# Altium schematic symbol library comm sub.SchLib: 89 symbols (part 3 of 4)
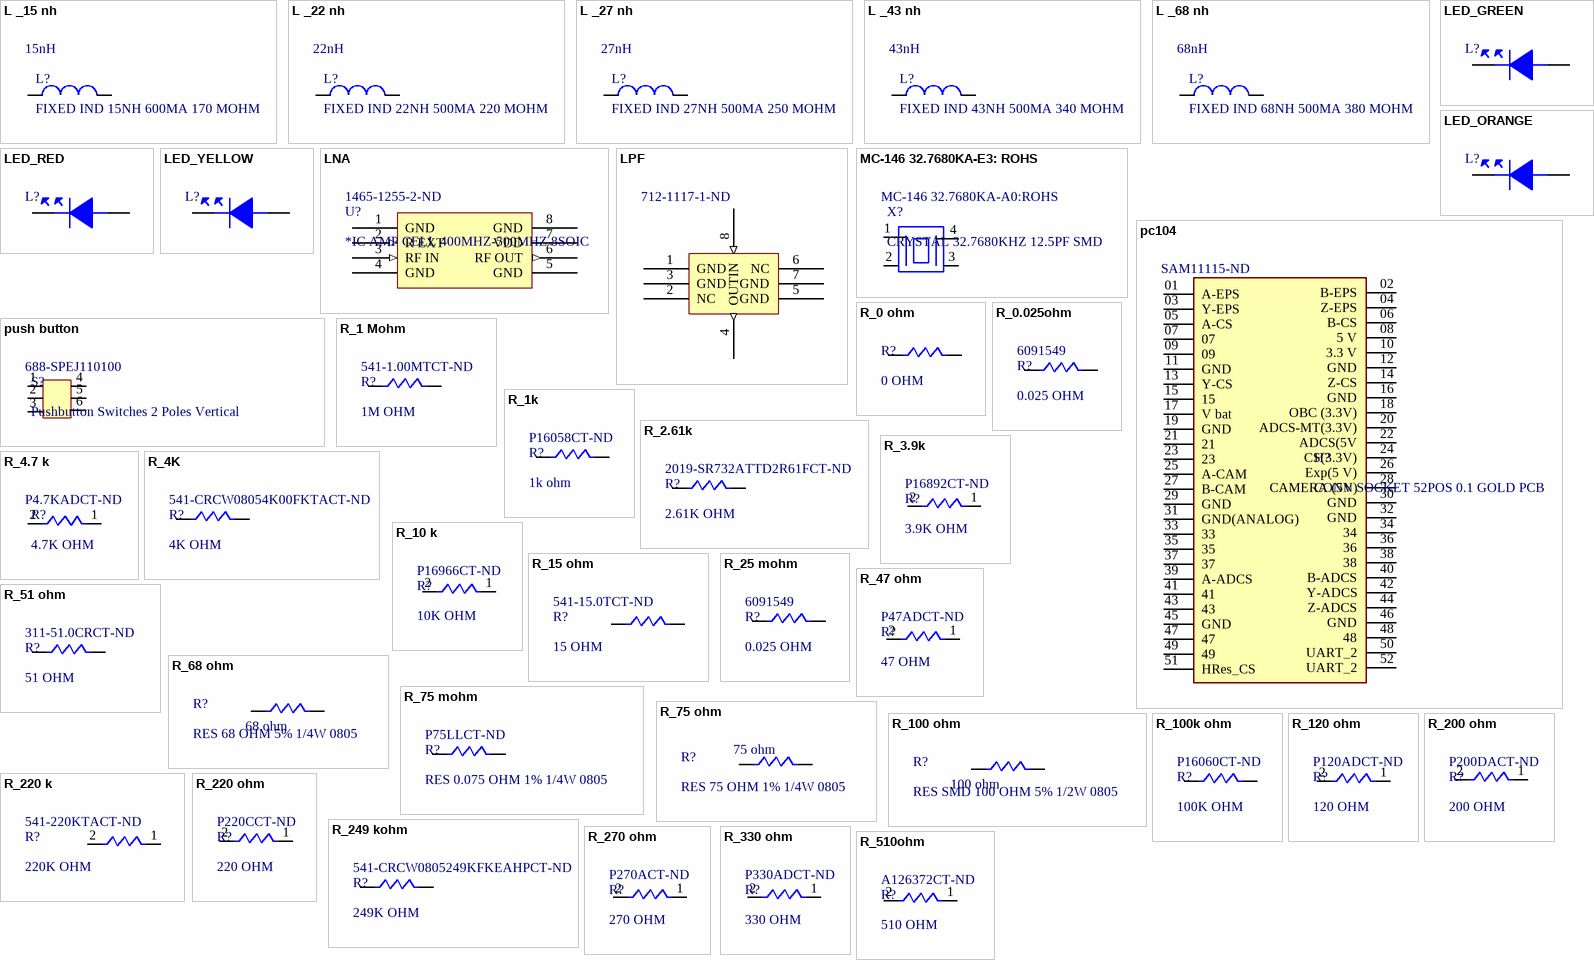
[diagram p4: symbols L _15 nh to R_510ohm]

## R_1k
designator R?, comment 1k ohm  Supplier Part Number 1: P16058CT-ND
1 kOhms ±1% 0.5W, 1/2W Chip Resistor 0805 (2012 Metric) Automotive AEC-Q200, Pulse Withstanding Thick Film; Manufacturer: Vishay; Manufacturer Part Number: CRCW08050000Z0EAC; Power Rating: 125mW; Resistance: 20R; Temperature Coefficient: 100ppm/°C; Voltage Rating (DC): 150V; RoHS: Yes; Mount: Surface Mount; Case/Package: Molded; Contact Plating: Tin; Min Operating Temperature: -55°C; Max Operating Temperature: 155°C; Resistor Type: Thick Film; Termination: Wraparound; Length: 2mm; Lead Free: Lead Free; ComponentLink1URL: http://www.vishay.com/docs/28773/crcwce3.pdf?src-supplier=Digi-Key; ComponentLink1Description: http://www.vishay.com/docs/28773/crcwce3.pdf?src-supplier=Digi-Key; Supplier 1: Digi-Key; Stock 1: 50926; Pricing 1: 1 = 0.16000, 10 = 0.13400, 100 = 0.05250, 1000 = 0.02196, 2500 = 0.02013 (USD); Number of Pins: 2; Case Code (Imperial): 0805; Case Code (Metric): 2012; Tolerance: 1%; Packaging: Tape and Reel; Voltage Rating: 150V; Package Quantity: 5000; Width: 1.2mm; Height: 0.6mm; Depth: 1.25mm; Radiation Hardening: No; Military Standard: Not; REACH SVHC: No SVHC; ComponentLink2URL: https://datasheet.ciiva.com/11812/0900766b812cb812-11812402.pdf?src-supplier=RSComponents; ComponentLink2Description: https://datasheet.ciiva.com/11812/0900766b812cb812-11812402.pdf?src-supplier=RSComponents; ComponentLink3URL: https://datasheet.ciiva.com/7942/1801181-7942439.pdf?src-supplier=Element14; ComponentLink3Description: https://datasheet.ciiva.com/7942/1801181-7942439.pdf?src-supplier=Element14; ComponentLink4URL: https://datasheet.ciiva.com/17215/aoa0000ce4-17215335.pdf?src-supplier=Avnet+Europe; ComponentLink4Description: https://datasheet.ciiva.com/17215/aoa0000ce4-17215335.pdf?src-supplier=Avnet+Europe; ComponentLink5URL: https://datasheet.ciiva.com/24024/aoa0000ce4-64075-24024393.pdf?src-supplier=Mouser; ComponentLink5Description: https://datasheet.ciiva.com/24024/aoa0000ce4-64075-24024393.pdf?src-supplier=Mouser; ComponentLink6URL: https://datasheet.ciiva.com/48426/erjp-series-eng-tds-48426778.pdf?src-supplier=Distrelec; ComponentLink6Description: https://datasheet.ciiva.com/48426/erjp-series-eng-tds-48426778.pdf?src-supplier=Distrelec; ComponentLink7URL: https://datasheet.ciiva.com/22783/1801181-22783836.pdf?src-supplier=Farnell; ComponentLink7Description: https://datasheet.ciiva.com/22783/1801181-22783836.pdf?src-supplier=Farnell; ComponentLink8URL: https://datasheet.ciiva.com/30056/aoa0000ce4-30056581.pdf?src-supplier=Onlinecomponents.com; ComponentLink8Description: https://datasheet.ciiva.com/30056/aoa0000ce4-30056581.pdf?src-supplier=Onlinecomponents.com; ComponentLink9URL: https://datasheet.ciiva.com/7942/1801181-7942440.pdf?src-supplier=Element14; ComponentLink9Description: https://datasheet.ciiva.com/7942/1801181-7942440.pdf?src-supplier=Element14; ComponentLink10URL: https://datasheet.ciiva.com/25795/1801181-25795160.pdf?src-supplier=Farnell; ComponentLink10Description: https://datasheet.ciiva.com/25795/1801181-25795160.pdf?src-supplier=Farnell
footprint 0805 R
pins: 1, 2

## R_2.61k
designator R?, comment 2.61K OHM  Supplier Part Number 1: 2019-SR732ATTD2R61FCT-ND
2.61 Ohms ±1% 0.333W, 1/3W Chip Resistor 0805 (2012 Metric) Automotive AEC-Q200, Current Sense Thick Film; Manufacturer: Vishay; Manufacturer Part Number: CRCW08050000Z0EAC; Power Rating: 125mW; Resistance: 20R; Temperature Coefficient: 100ppm/°C; Voltage Rating: 1.58V; RoHS: Yes; Mount: Surface Mount; Case/Package: Molded; Contact Plating: Tin; Min Operating Temperature: -55°C; Max Operating Temperature: 155°C; Resistor Type: Thick Film; Termination: Wraparound; Length: 2mm; Lead Free: Lead Free; ComponentLink1URL: http://www.vishay.com/docs/28773/crcwce3.pdf?src-supplier=Digi-Key; ComponentLink1Description: http://www.vishay.com/docs/28773/crcwce3.pdf?src-supplier=Digi-Key; Supplier 1: Digi-Key; Stock 1: 2830; Pricing 1: 1 = 0.50000, 10 = 0.38000, 25 = 0.28880, 50 = 0.21460, 100 = 0.15950, 250 = 0.13476, 500 = 0.11550, 1000 = 0.08800 (USD); Case Code (Imperial): 0805; Case Code (Metric): 2012; Tolerance: 1%; Packaging: Tape and Reel; Package Quantity: 4000; Width: 1.25mm; Height: 0.5mm; ComponentLink2URL: https://datasheet.ciiva.com/5470/sr73-5470062.pdf?src-supplier=Mouser; ComponentLink2Description: https://datasheet.ciiva.com/5470/sr73-5470062.pdf?src-supplier=Mouser; ComponentLink3URL: http://datasheet.octopart.com/SR732ATTD2R61F-KOA-Speer-datasheet-141350765.pdf?src-supplier=KOA+Speer+SCT; ComponentLink3Description: http://datasheet.octopart.com/SR732ATTD2R61F-KOA-Speer-datasheet-141350765.pdf?src-supplier=KOA+Speer+SCT
footprint 0805 R
pins: 1, 2

## R_3.9k
designator R?, comment 3.9K OHM  Supplier Part Number 1: P16892CT-ND
3.9 kOhms ±1% 0.5W, 1/2W Chip Resistor 0805 (2012 Metric) Automotive AEC-Q200, Pulse Withstanding Thick Film; Manufacturer: Panasonic; Manufacturer Part Number: ERJ-6ENF3901V; Resistance: 3.9kR; Power Rating: 125mW; Voltage Rating: 150V; Temperature Coefficient: 100ppm/°C; RoHS: Yes; Mount: Surface Mount; Case/Package: 0805; Case Code (Metric): 2012; Case Code (Imperial): 0805; Contact Plating: Tin; Min Operating Temperature: -55°C; Max Operating Temperature: 155°C; Tolerance: 1%; Packaging: Tape and Reel; Package Quantity: 1; Resistor Type: Thick Film; Number of Terminations: 2; Termination: SMD/SMT; Max Power Dissipation: 125mW; Voltage Rating (DC): 150V; Features: Automotive AEC-Q200; Length: 2mm; Width: 0.049inch; Height: 0.6mm; Depth: 1.25mm; Radiation Hardening: No; Lead Free: Lead Free; REACH SVHC: Yes; Military Standard: Not; Series: ERJ; RoHS Compliant: Yes; ComponentLink1URL: https://datasheet.ciiva.com/24051/aoa0000ce4-64075-24051982.pdf?src-supplier=Mouser; ComponentLink1Description: https://datasheet.ciiva.com/24051/aoa0000ce4-64075-24051982.pdf?src-supplier=Mouser; Supplier 1: Digi-Key; Stock 1: 4988; Pricing 1: 1 = 0.48000, 10 = 0.36400, 100 = 0.15310, 1000 = 0.08448, 2500 = 0.07920 (USD); ComponentLink2URL: https://datasheet.ciiva.com/48532/aoa0000ce4-48532006.pdf?src-supplier=Avnet; ComponentLink2Description: https://datasheet.ciiva.com/48532/aoa0000ce4-48532006.pdf?src-supplier=Avnet; ComponentLink3URL: https://datasheet.ciiva.com/6082/1790600-6082409.pdf?src-supplier=Farnell; ComponentLink3Description: https://datasheet.ciiva.com/6082/1790600-6082409.pdf?src-supplier=Farnell; ComponentLink4URL: https://datasheet.ciiva.com/48525/erjp-series-eng-tds-48525514.pdf?src-supplier=Distrelec; ComponentLink4Description: https://datasheet.ciiva.com/48525/erjp-series-eng-tds-48525514.pdf?src-supplier=Distrelec
footprint 0805 R
pins: 1, 2

## R_4.7 k
designator R?, comment 4.7K OHM  Supplier Part Number 1: P4.7KADCT-ND
4.7 kOhms ±5% 0.5W, 1/2W Chip Resistor 0805 (2012 Metric) Automotive AEC-Q200, Pulse Withstanding Thick Film; Manufacturer: Panasonic; Manufacturer Part Number: ERJ-6ENF4701V; Tolerance: 1%; Resistance: 4.7kR; Power Rating: 125mW; Voltage Rating: 150V; Temperature Coefficient: 100ppm/°C; RoHS: Yes; Mount: Surface Mount; Case/Package: 0805; Number of Pins: 2; Case Code (Metric): 2012; Case Code (Imperial): 0805; Contact Plating: Tin; Weight: 0.000194oz; Min Operating Temperature: -55°C; Max Operating Temperature: 155°C; Packaging: Tape and Reel; Package Quantity: 1; Resistor Type: Thick Film; Number of Terminations: 2; Termination: SMD/SMT; Max Power Dissipation: 125mW; Features: Automotive AEC-Q200; Voltage Rating (DC): 150V; Working Voltage: 150V; Length: 2mm; Width: 0.049inch; Height: 0.6mm; Depth: 1.25mm; Radiation Hardening: No; REACH SVHC: No SVHC; Military Standard: Not; Lead Free: Lead Free; ComponentLink1URL: https://datasheet.ciiva.com/11821/0900766b80f80784-11821673.pdf?src-supplier=RSComponents; ComponentLink1Description: https://datasheet.ciiva.com/11821/0900766b80f80784-11821673.pdf?src-supplier=RSComponents; ComponentLink2URL: https://datasheet.ciiva.com/28514/426256-28514229.pdf?src-supplier=Element14; ComponentLink2Description: https://datasheet.ciiva.com/28514/426256-28514229.pdf?src-supplier=Element14; ComponentLink3URL: https://datasheet.ciiva.com/16777/70260748-16777271.pdf?src-supplier=Allied+Electronics; ComponentLink3Description: https://datasheet.ciiva.com/16777/70260748-16777271.pdf?src-supplier=Allied+Electronics; ComponentLink4URL: https://datasheet.ciiva.com/16200/aoa0000ce2-16200217.pdf?src-supplier=Future+Electronics; ComponentLink4Description: https://datasheet.ciiva.com/16200/aoa0000ce2-16200217.pdf?src-supplier=Future+Electronics; ComponentLink5URL: https://datasheet.ciiva.com/9117/aoa0000ce2-9117307.pdf?src-supplier=Avnet; ComponentLink5Description: https://datasheet.ciiva.com/9117/aoa0000ce2-9117307.pdf?src-supplier=Avnet; ComponentLink6URL: https://datasheet.ciiva.com/16769/70260748-16769116.pdf?src-supplier=Allied+Electronics; ComponentLink6Description: https://datasheet.ciiva.com/16769/70260748-16769116.pdf?src-supplier=Allied+Electronics; ComponentLink7URL: https://datasheet.ciiva.com/24124/aoa0000ce2-24124253.pdf?src-supplier=Mouser; ComponentLink7Description: https://datasheet.ciiva.com/24124/aoa0000ce2-24124253.pdf?src-supplier=Mouser; ComponentLink8URL: https://datasheet.ciiva.com/7830/426256-7830750.pdf?src-supplier=Element14; ComponentLink8Description: https://datasheet.ciiva.com/7830/426256-7830750.pdf?src-supplier=Element14; ComponentLink9URL: https://datasheet.ciiva.com/22667/1678782-22667902.pdf?src-supplier=Element14; ComponentLink9Description: https://datasheet.ciiva.com/22667/1678782-22667902.pdf?src-supplier=Element14; Supplier 1: Digi-Key; Stock 1: 1555; Pricing 1: 1 = 0.10000, 10 = 0.09400, 100 = 0.03600, 1000 = 0.01584, 2500 = 0.01368 (USD); Series: ERJ; Construction: Rectangular; Technology: THICK FILM; Resistance Tolerance: 5%; RoHS Compliant: Yes; ComponentLink10URL: https://datasheet.ciiva.com/11815/0900766b812cb812-11815898.pdf?src-supplier=RSComponents; ComponentLink10Description: https://datasheet.ciiva.com/11815/0900766b812cb812-11815898.pdf?src-supplier=RSComponents; ComponentLink11URL: https://datasheet.ciiva.com/17213/aoa0000ce4-17213209.pdf?src-supplier=Avnet+Europe; ComponentLink11Description: https://datasheet.ciiva.com/17213/aoa0000ce4-17213209.pdf?src-supplier=Avnet+Europe; ComponentLink12URL: https://datasheet.ciiva.com/16770/70068906-16770234.pdf?src-supplier=Allied+Electronics; ComponentLink12Description: https://datasheet.ciiva.com/16770/70068906-16770234.pdf?src-supplier=Allied+Electronics; ComponentLink13URL: https://datasheet.ciiva.com/7831/aoa0000ce4-7831005.pdf?src-supplier=Element14; ComponentLink13Description: https://datasheet.ciiva.com/7831/aoa0000ce4-7831005.pdf?src-supplier=Element14
footprint 0805 R
pins: 1, 2

## R_4K
designator R?, comment 4K OHM  Supplier Part Number 1: 541-CRCW08054K00FKTACT-ND
4 kOhms ±1% 0.125W, 1/8W Chip Resistor 0805 (2012 Metric) Automotive AEC-Q200 Thick Film; Manufacturer: Vishay; Manufacturer Part Number: CRCW08050000Z0EAC; Power Rating: 125mW; Resistance: 20R; Voltage Rating: 150V; Temperature Coefficient: 100ppm/°C; RoHS: Yes; Mount: Surface Mount; Case/Package: Molded; Contact Plating: Tin; Min Operating Temperature: -55°C; Max Operating Temperature: 155°C; Resistor Type: Thick Film; Termination: Wraparound; Length: 2mm; Lead Free: Lead Free; ComponentLink1URL: http://www.vishay.com/docs/28773/crcwce3.pdf?src-supplier=Digi-Key; ComponentLink1Description: http://www.vishay.com/docs/28773/crcwce3.pdf?src-supplier=Digi-Key; Supplier 1: Digi-Key; Stock 1: 2308; Pricing 1: 1 = 0.13000, 10 = 0.11700, 100 = 0.04510, 1000 = 0.01984, 2500 = 0.01714 (USD); Weight: 0.000194oz; Case Code (Imperial): 0805; Case Code (Metric): 2012; Features: Automotive AEC-Q200; Packaging: Tape and Reel; Tolerance: 1%; Package Quantity: 5000; Number of Terminations: 2; Max Power Dissipation: 125mW; Width: 0.049inch; Height: 0.02inch; Radiation Hardening: No; ComponentLink2URL: https://datasheet.ciiva.com/9075/dcrcw-9075638.pdf?src-supplier=Avnet; ComponentLink2Description: https://datasheet.ciiva.com/9075/dcrcw-9075638.pdf?src-supplier=Avnet; ComponentLink3URL: http://datasheet.octopart.com/CRCW08054K00FKTA-Vishay-datasheet-546287.pdf; ComponentLink3Description: http://datasheet.octopart.com/CRCW08054K00FKTA-Vishay-datasheet-546287.pdf; ComponentLink4URL: http://datasheet.octopart.com/CRCW08054K00FKTA-Vishay-datasheet-5306405.pdf; ComponentLink4Description: http://datasheet.octopart.com/CRCW08054K00FKTA-Vishay-datasheet-5306405.pdf; ComponentLink5URL: http://datasheet.octopart.com/CRCW08054K00FKTA-Vishay-datasheet-8361388.pdf; ComponentLink5Description: http://datasheet.octopart.com/CRCW08054K00FKTA-Vishay-datasheet-8361388.pdf; ComponentLink6URL: http://datasheet.octopart.com/CRCW08054K00FKTA-Vishay-datasheet-8788789.pdf; ComponentLink6Description: http://datasheet.octopart.com/CRCW08054K00FKTA-Vishay-datasheet-8788789.pdf; ComponentLink7URL: http://datasheet.octopart.com/CRCW08054K00FKTA-Vishay-datasheet-10322335.pdf; ComponentLink7Description: http://datasheet.octopart.com/CRCW08054K00FKTA-Vishay-datasheet-10322335.pdf; ComponentLink8URL: http://datasheet.octopart.com/CRCW08054K00FKTA-Vishay-datasheet-12509762.pdf; ComponentLink8Description: http://datasheet.octopart.com/CRCW08054K00FKTA-Vishay-datasheet-12509762.pdf; ComponentLink9URL: http://datasheet.octopart.com/CRCW08054K00FKTA-Vishay-datasheet-12517896.pdf; ComponentLink9Description: http://datasheet.octopart.com/CRCW08054K00FKTA-Vishay-datasheet-12517896.pdf; ComponentLink10URL: http://datasheet.octopart.com/CRCW08054K00FKTA-Vishay-datasheet-12532161.pdf; ComponentLink10Description: http://datasheet.octopart.com/CRCW08054K00FKTA-Vishay-datasheet-12532161.pdf; ComponentLink11URL: http://datasheet.octopart.com/CRCW08054K00FKTA-Vishay-datasheet-12600034.pdf; ComponentLink11Description: http://datasheet.octopart.com/CRCW08054K00FKTA-Vishay-datasheet-12600034.pdf; ComponentLink12URL: http://datasheet.octopart.com/CRCW08054K00FKTA-Vishay-datasheet-13034211.pdf; ComponentLink12Description: http://datasheet.octopart.com/CRCW08054K00FKTA-Vishay-datasheet-13034211.pdf; ComponentLink13URL: http://datasheet.octopart.com/CRCW08054K00FKTA-Vishay-datasheet-13195083.pdf; ComponentLink13Description: http://datasheet.octopart.com/CRCW08054K00FKTA-Vishay-datasheet-13195083.pdf; ComponentLink14URL: http://datasheet.octopart.com/CRCW08054K00FKTA-Vishay-datasheet-13242068.pdf; ComponentLink14Description: http://datasheet.octopart.com/CRCW08054K00FKTA-Vishay-datasheet-13242068.pdf; ComponentLink15URL: http://datasheet.octopart.com/CRCW08054K00FKTA-Vishay-datasheet-137115141.pdf?src-supplier=X-ON; ComponentLink15Description: http://datasheet.octopart.com/CRCW08054K00FKTA-Vishay-datasheet-137115141.pdf?src-supplier=X-ON; ComponentLink16URL: http://datasheet.octopart.com/D-CRCW-Lead-%28Pb%29-Bearing-Thick-Film%2C-Rectangular-Chip-Resistors-Vishay-datasheet-family-72.pdf; ComponentLink16Description: http://datasheet.octopart.com/D-CRCW-Lead-%28Pb%29-Bearing-Thick-Film%2C-Rectangular-Chip-Resistors-Vishay-datasheet-family-72.pdf
footprint 0805 R
pins: 1, 2

## R_10 k
designator R?, comment 10K OHM  Supplier Part Number 1: P16966CT-ND
10 kOhms ±5% 0.5W, 1/2W Chip Resistor 0805 (2012 Metric) Automotive AEC-Q200, Pulse Withstanding Thick Film; Manufacturer: Panasonic; Manufacturer Part Number: ERJP6WF1002V; Resistance: 10kR; Tolerance: 1%; Power Rating: 500mW; Voltage Rating: 150V; Temperature Coefficient: 200ppm/°C; RoHS: Yes; Case/Package: 0805; Contact Plating: Tin; Case Code (Imperial): 0805; Case Code (Metric): 2012; Min Operating Temperature: -55°C; Max Operating Temperature: 155°C; Resistor Type: Thick Film; Max Power Dissipation: 500mW; Packaging: Cut Tape; Number of Terminations: 2; Termination: Flat; Features: Automotive AEC-Q200; Voltage Rating (DC): 150V; Length: 0.079inch; Width: 0.049inch; Height: 0.03inch; Depth: 1.25mm; REACH SVHC: No SVHC; Lead Free: Lead Free; ComponentLink1URL: https://datasheet.ciiva.com/48531/aoa0000ce4-48531894.pdf?src-supplier=Avnet; ComponentLink1Description: https://datasheet.ciiva.com/48531/aoa0000ce4-48531894.pdf?src-supplier=Avnet; ComponentLink2URL: https://datasheet.ciiva.com/22785/1790600-22785975.pdf?src-supplier=Farnell; ComponentLink2Description: https://datasheet.ciiva.com/22785/1790600-22785975.pdf?src-supplier=Farnell; Supplier 1: Digi-Key; Stock 1: 7791; Pricing 1: 1 = 0.37000, 10 = 0.28600, 100 = 0.12010, 1000 = 0.06624, 2500 = 0.06210 (USD); ComponentLink3URL: https://datasheet.ciiva.com/48531/aoa0000ce4-48531895.pdf?src-supplier=Avnet; ComponentLink3Description: https://datasheet.ciiva.com/48531/aoa0000ce4-48531895.pdf?src-supplier=Avnet
footprint 0805 R
pins: 1, 2

## R_15 ohm
designator R?, comment 15 OHM  Supplier Part Number 1: 541-15.0TCT-ND
15 Ohms ±1% 0.5W, 1/2W Chip Resistor 0805 (2012 Metric) Automotive AEC-Q200, Pulse Withstanding Thick Film; Manufacturer: Vishay; Manufacturer Part Number: CRCW080515R0FKEB; Resistance: 15R; Power Rating: 125mW; Temperature Coefficient: 100ppm/°C; Voltage Rating: 150V; Case/Package: 0805; Contact Plating: Tin; Case Code (Imperial): 0805; Case Code (Metric): 2012; Weight: 0.000194oz; Min Operating Temperature: -55°C; Max Operating Temperature: 155°C; Number of Terminations: 2; Termination: SMD/SMT; Packaging: Tape and Reel; Tolerance: 1%; Max Power Dissipation: 125mW; Package Quantity: 10000; Resistor Type: Thick Film; Features: Automotive AEC-Q200; Length: 0.079inch; Width: 0.049inch; Height: 0.02inch; Radiation Hardening: No; Lead Free: Lead Free; Supplier 1: Digi-Key; RoHS: Yes; Stock 1: 18700; Pricing 1: 1 = 0.23000, 10 = 0.19300, 100 = 0.07530, 1000 = 0.03150, 2500 = 0.02888 (USD); Mount: Surface Mount; Series: CRCW-HP - Automotive; Technology: THICK FILM; Voltage Rating (DC): 150V; Resistance Tolerance: 1%; Construction: Rectangular; Depth: 1.25mm; RoHS Compliant: Yes; REACH SVHC: Unknown; Military Standard: Not; ComponentLink1URL: https://datasheet.ciiva.com/6548/crcwhpe3-6548157.pdf?src-supplier=Digi-Key; ComponentLink1Description: https://datasheet.ciiva.com/6548/crcwhpe3-6548157.pdf?src-supplier=Digi-Key; ComponentLink2URL: https://datasheet.ciiva.com/6548/crcwhpe3-6548158.pdf?src-supplier=Digi-Key; ComponentLink2Description: https://datasheet.ciiva.com/6548/crcwhpe3-6548158.pdf?src-supplier=Digi-Key; ComponentLink3URL: https://datasheet.ciiva.com/7777/424479-7777366.pdf?src-supplier=Element14; ComponentLink3Description: https://datasheet.ciiva.com/7777/424479-7777366.pdf?src-supplier=Element14; ComponentLink4URL: https://datasheet.ciiva.com/7777/424479-7777367.pdf?src-supplier=Element14; ComponentLink4Description: https://datasheet.ciiva.com/7777/424479-7777367.pdf?src-supplier=Element14; ComponentLink5URL: https://datasheet.ciiva.com/6548/crcwhpe3-6548159.pdf?src-supplier=Digi-Key; ComponentLink5Description: https://datasheet.ciiva.com/6548/crcwhpe3-6548159.pdf?src-supplier=Digi-Key
footprint 0805 R
pins: 1, 2

## R_25 mohm
designator R?, comment 0.025 OHM  Supplier Part Number 1: 6091549
25 mOhms ±1% 0.5W, 1/2W Chip Resistor 0805 (2012 Metric) Automotive AEC-Q200, Current Sense Thick Film; Manufacturer: Panasonic; Manufacturer Part Number: ERJ-6BWFR025V; Max Power Dissipation: 500mW; Temperature Coefficient: 200ppm/°C; Resistance: 25mR; ComponentLink1URL: http://www.vishay.com/docs/28773/crcwce3.pdf?src-supplier=Digi-Key; ComponentLink1Description: http://www.vishay.com/docs/28773/crcwce3.pdf?src-supplier=Digi-Key; Supplier 1: Future Electronics; RoHS: Yes; Stock 1: 5000; Pricing 1: 5000 = 0.30500 (USD); Case/Package: 0805; Case Code (Imperial): 0805; Case Code (Metric): 2012; Min Operating Temperature: -55°C; Max Operating Temperature: 155°C; Tolerance: 1%; Features: Automotive AEC-Q200; Packaging: Cut Tape; Power Rating: 500mW; Resistor Type: Thick Film; Number of Terminations: 2; Length: 0.079inch; Width: 0.049inch; Height: 0.028inch; REACH SVHC: No SVHC; ComponentLink2URL: http://www.farnell.com/datasheets/1951809.pdf?src-supplier=Farnell; ComponentLink2Description: http://www.farnell.com/datasheets/1951809.pdf?src-supplier=Farnell; ComponentLink3URL: http://www.mouser.com/ds/2/315/AOA0000C295-1109214.pdf?src-supplier=Mouser; ComponentLink3Description: http://www.mouser.com/ds/2/315/AOA0000C295-1109214.pdf?src-supplier=Mouser; ComponentLink4URL: https://industrial.panasonic.com/cdbs/www-data/pdf/RDN0000/AOA0000C313.pdf?src-supplier=Digi-Key; ComponentLink4Description: https://industrial.panasonic.com/cdbs/www-data/pdf/RDN0000/AOA0000C313.pdf?src-supplier=Digi-Key; ComponentLink5URL: http://www.farnell.com/datasheets/1951809.pdf?src-supplier=Element14; ComponentLink5Description: http://www.farnell.com/datasheets/1951809.pdf?src-supplier=Element14
footprint 0805 R
pins: 1, 2

## R_47 ohm
designator R?, comment 47 OHM  Supplier Part Number 1: P47ADCT-ND
47 Ohms ±5% 0.5W, 1/2W Chip Resistor 0805 (2012 Metric) Automotive AEC-Q200, Pulse Withstanding Thick Film; Manufacturer: Panasonic; Manufacturer Part Number: ERJ-P6WF47R0V; Voltage Rating (DC): 150V; Tolerance: 1%; Power Rating: 500mW; Resistance: 47R; Temperature Coefficient: 200ppm/°C; RoHS: Yes; Case/Package: 0805; Case Code (Metric): 2012; Contact Plating: Tin; Case Code (Imperial): 0805; Min Operating Temperature: -55°C; Max Operating Temperature: 155°C; Number of Terminations: 2; Termination: Flat; Voltage Rating: 150V; Packaging: Cut Tape; Resistor Type: Thick Film; Features: Automotive AEC-Q200; Max Power Dissipation: 500mW; Length: 0.079inch; Width: 0.049inch; Height: 0.03inch; Depth: 1.25mm; REACH SVHC: No SVHC; Supplier 1: Digi-Key; Stock 1: 46649; Pricing 1: 1 = 0.10000, 10 = 0.09400, 100 = 0.03600, 1000 = 0.01584, 2500 = 0.01368 (USD); Mount: Surface Mount; Package Quantity: 1; Radiation Hardening: No; Military Standard: Not; Lead Free: Lead Free; ComponentLink1URL: https://datasheet.ciiva.com/11815/0900766b812cb812-11815917.pdf?src-supplier=RSComponents; ComponentLink1Description: https://datasheet.ciiva.com/11815/0900766b812cb812-11815917.pdf?src-supplier=RSComponents; ComponentLink2URL: https://datasheet.ciiva.com/17209/aoa0000ce4-17209589.pdf?src-supplier=Avnet+Europe; ComponentLink2Description: https://datasheet.ciiva.com/17209/aoa0000ce4-17209589.pdf?src-supplier=Avnet+Europe; ComponentLink3URL: https://datasheet.ciiva.com/9189/aoa0000ce4-9189447.pdf?src-supplier=Avnet; ComponentLink3Description: https://datasheet.ciiva.com/9189/aoa0000ce4-9189447.pdf?src-supplier=Avnet; ComponentLink4URL: https://datasheet.ciiva.com/7887/aoa0000ce4-7887048.pdf?src-supplier=Element14; ComponentLink4Description: https://datasheet.ciiva.com/7887/aoa0000ce4-7887048.pdf?src-supplier=Element14; ComponentLink5URL: https://datasheet.ciiva.com/30108/aoa0000ce4-30108030.pdf?src-supplier=Onlinecomponents.com; ComponentLink5Description: https://datasheet.ciiva.com/30108/aoa0000ce4-30108030.pdf?src-supplier=Onlinecomponents.com
footprint 0805 R
pins: 1, 2

## R_51 ohm
designator R?, comment 51 OHM  Supplier Part Number 1: 311-51.0CRCT-ND
51 Ohms ±1% 0.125W, 1/8W Chip Resistor 0805 (2012 Metric)  Thick Film; Manufacturer: Vishay; Manufacturer Part Number: CRCW08050000Z0EAC; Power Rating: 125mW; Resistance: 20R; Voltage Rating (DC): 150V; Temperature Coefficient: 100ppm/°C; RoHS: Yes; Mount: Surface Mount; Case/Package: Molded; Contact Plating: Tin; Min Operating Temperature: -55°C; Max Operating Temperature: 155°C; Resistor Type: Thick Film; Termination: Wraparound; Length: 2mm; Lead Free: Lead Free; ComponentLink1URL: http://www.vishay.com/docs/28773/crcwce3.pdf?src-supplier=Digi-Key; ComponentLink1Description: http://www.vishay.com/docs/28773/crcwce3.pdf?src-supplier=Digi-Key; Supplier 1: Digi-Key; Stock 1: 161423; Pricing 1: 1 = 0.10000, 10 = 0.03600, 100 = 0.01470, 1000 = 0.00660, 2500 = 0.00573 (USD); Case Code (Metric): 2012; Case Code (Imperial): 0805; Tolerance: 1%; Packaging: Tape and Reel; Voltage Rating: 150V; Features: Moisture Resistant; Max Power Dissipation: 125mW; Number of Terminations: 2; Package Quantity: 1; Width: 0.049inch; Height: 0.024inch; Depth: 1.25mm; Military Standard: Not; ComponentLink2URL: https://datasheet.ciiva.com/11808/0900766b8106beab-11808616.pdf?src-supplier=RSComponents; ComponentLink2Description: https://datasheet.ciiva.com/11808/0900766b8106beab-11808616.pdf?src-supplier=RSComponents; ComponentLink3URL: https://datasheet.ciiva.com/15189/getdatasheetpartid-326572-15189991.pdf?src-supplier=Verical; ComponentLink3Description: https://datasheet.ciiva.com/15189/getdatasheetpartid-326572-15189991.pdf?src-supplier=Verical; ComponentLink4URL: https://datasheet.ciiva.com/17419/rc0805-17419917.pdf?src-supplier=Future+Electronics; ComponentLink4Description: https://datasheet.ciiva.com/17419/rc0805-17419917.pdf?src-supplier=Future+Electronics; ComponentLink5URL: https://datasheet.ciiva.com/2458/pyu-r-int-thick-7-2458126.pdf?src-supplier=Digi-Key; ComponentLink5Description: https://datasheet.ciiva.com/2458/pyu-r-int-thick-7-2458126.pdf?src-supplier=Digi-Key; ComponentLink6URL: https://datasheet.ciiva.com/5558/rc0805-5558015.pdf?src-supplier=Mouser; ComponentLink6Description: https://datasheet.ciiva.com/5558/rc0805-5558015.pdf?src-supplier=Mouser; ComponentLink7URL: https://datasheet.ciiva.com/2458/pyu-r-int-thick-7-2458124.pdf?src-supplier=Digi-Key; ComponentLink7Description: https://datasheet.ciiva.com/2458/pyu-r-int-thick-7-2458124.pdf?src-supplier=Digi-Key; ComponentLink8URL: https://datasheet.ciiva.com/2458/pyu-r-int-thick-7-2458125.pdf?src-supplier=Digi-Key; ComponentLink8Description: https://datasheet.ciiva.com/2458/pyu-r-int-thick-7-2458125.pdf?src-supplier=Digi-Key
footprint 0805 R
pins: 1, 2

## R_68 ohm
designator R?, comment RES 68 OHM 5% 1/4W 0805  Resistance: 68 ohm
68 Ohms ±5% 0.25W, 1/4W Chip Resistor 0805 (2012 Metric) Automotive AEC-Q200, Pulse Withstanding Thick Film; Manufacturer: Stackpole Electronics; Manufacturer Part Number: RPC0805JT68R0; Max Power Dissipation: 250mW; Temperature Coefficient: 200ppm/°C; ComponentLink1URL: https://www.seielect.com/Catalog/SEI-rpc.pdf?src-supplier=Digi-Key; ComponentLink1Description: https://www.seielect.com/Catalog/SEI-rpc.pdf?src-supplier=Digi-Key; ComponentLink2URL: https://www.seielect.com/catalog/SEI-Packaging.pdf?src-supplier=Digi-Key; ComponentLink2Description: https://www.seielect.com/catalog/SEI-Packaging.pdf?src-supplier=Digi-Key; Supplier 1: Digi-Key; RoHS: Yes; Stock 1: 6646; Pricing 1: 1 = 0.17000, 10 = 0.14300, 100 = 0.05590, 1000 = 0.02340, 2500 = 0.02145 (USD); Mount: Surface Mount; Case/Package: 0805; Case Code (Metric): 2012; Case Code (Imperial): 0805; Min Operating Temperature: -55°C; Max Operating Temperature: 155°C; Tolerance: 5%; Packaging: Tape and Reel; Resistor Type: Thick Film; Number of Terminations: 2; Features: Automotive AEC-Q200; Series: RPC; Length: 0.079inch; Width: 0.049inch; Height: 0.028inch; RoHS Compliant: Yes; Supplier Part Number 1: RPC0805JT68R0CT-ND
footprint 0805 R
pins: 1, 2

## R_75 mohm
designator R?, comment RES 0.075 OHM 1% 1/4W 0805  Supplier Part Number 1: P75LLCT-ND
RES SMD 0 OHM JUMP 1/8W 0805; Manufacturer: Vishay; Manufacturer Part Number: CRCW08050000Z0EAC; Power Rating: 125mW; Resistance: 20R; Voltage Rating: 150V; Temperature Coefficient: 100ppm/°C; RoHS: Yes; Mount: Surface Mount; Case/Package: Molded; Contact Plating: Tin; Min Operating Temperature: -55°C; Max Operating Temperature: 155°C; Resistor Type: Thick Film; Termination: Wraparound; Length: 2mm; Lead Free: Lead Free; Case Code (Metric): 2012; Case Code (Imperial): 0805; Tolerance: 1%; Packaging: Tape and Reel; Voltage Rating (DC): 150V; Package Quantity: 1; Number of Terminations: 2; Max Power Dissipation: 125mW; Features: Moisture Resistant; Working Voltage: 150V; Width: 0.049inch; Height: 0.024inch; Depth: 1.25mm; Radiation Hardening: No; Military Standard: Not; Supplier 1: Digi-Key; Stock 1: 5859; Pricing 1: 1 = 0.61000, 10 = 0.46600, 25 = 0.35480, 50 = 0.26360, 100 = 0.19600, 250 = 0.16564, 500 = 0.14196, 1000 = 0.10816 (USD); ComponentLink1URL: https://datasheet.ciiva.com/9187/aoa0000ce3-9187708.pdf?src-supplier=Avnet; ComponentLink1Description: https://datasheet.ciiva.com/9187/aoa0000ce3-9187708.pdf?src-supplier=Avnet; ComponentLink2URL: https://datasheet.ciiva.com/2449/aoa0000ce3-2449329.pdf?src-supplier=Digi-Key; ComponentLink2Description: https://datasheet.ciiva.com/2449/aoa0000ce3-2449329.pdf?src-supplier=Digi-Key; ComponentLink3URL: https://datasheet.ciiva.com/2449/aoa0000ce3-2449330.pdf?src-supplier=Digi-Key; ComponentLink3Description: https://datasheet.ciiva.com/2449/aoa0000ce3-2449330.pdf?src-supplier=Digi-Key; ComponentLink4URL: https://datasheet.ciiva.com/2449/aoa0000ce3-2449331.pdf?src-supplier=Digi-Key; ComponentLink4Description: https://datasheet.ciiva.com/2449/aoa0000ce3-2449331.pdf?src-supplier=Digi-Key; ComponentLink5URL: https://datasheet.ciiva.com/30080/6aoa0000ce3-30080167.pdf?src-supplier=Onlinecomponents.com; ComponentLink5Description: https://datasheet.ciiva.com/30080/6aoa0000ce3-30080167.pdf?src-supplier=Onlinecomponents.com; ComponentLink6URL: https://datasheet.ciiva.com/24070/aoa0000ce3-72189-24070669.pdf?src-supplier=Mouser; ComponentLink6Description: https://datasheet.ciiva.com/24070/aoa0000ce3-72189-24070669.pdf?src-supplier=Mouser
footprint 0805 R
pins: 1, 2

## R_75 ohm
designator R?, comment RES 75 OHM 1% 1/4W 0805  Resistance: 75 ohm
75 Ohms ±1% 0.25W, 1/4W Chip Resistor 0805 (2012 Metric) Anti-Sulfur, Moisture Resistant Thin Film; Manufacturer: Stackpole Electronics; Manufacturer Part Number: RNCP0805FTD75R0; Max Power Dissipation: 250mW; Temperature Coefficient: 100ppm/°C; Supplier 1: Digi-Key; RoHS: Yes; Pricing 1: 1 = 0.10000, 10 = 0.07000, 100 = 0.02830, 1000 = 0.01272, 2500 = 0.01104 (USD); Mount: Surface Mount; Case/Package: 0805; Case Code (Metric): 2012; Case Code (Imperial): 0805; Min Operating Temperature: -55°C; Max Operating Temperature: 155°C; Packaging: Tape and Reel; Resistor Type: Thin Film; Number of Terminations: 2; Tolerance: 1%; Features: Moisture Resistant,Anti-Sulfur; Series: RNCP; Length: 0.079inch; Width: 0.049inch; Height: 0.024inch; RoHS Compliant: Yes; ComponentLink1URL: https://www.seielect.com/catalog/SEI-Packaging.pdf?src-supplier=Digi-Key; ComponentLink1Description: https://www.seielect.com/catalog/SEI-Packaging.pdf?src-supplier=Digi-Key; ComponentLink2URL: http://www.seielect.com/Catalog/SEI-rncp.pdf?src-supplier=Digi-Key; ComponentLink2Description: http://www.seielect.com/Catalog/SEI-rncp.pdf?src-supplier=Digi-Key; Supplier Part Number 1: RNCP0805FTD75R0CT-ND
footprint 0805 R
pins: 1, 2

## R_100 ohm
designator R?, comment RES SMD 100 OHM 5% 1/2W 0805  Resistance: 100 ohm
100 Ohms ±5% 0.5W, 1/2W Chip Resistor 0805 (2012 Metric) Automotive AEC-Q200, Pulse Withstanding Thick Film; Manufacturer: Panasonic; Manufacturer Part Number: ERJ-P06J101V; Power Rating: 500mW; Voltage Rating: 400V; Temperature Coefficient: 200ppm/°C; Voltage Rating (DC): 150V; Supplier 1: Digi-Key; RoHS: Yes; Stock 1: 54556; Pricing 1: 1 = 0.11000, 10 = 0.10300, 100 = 0.03960, 1000 = 0.01742, 2500 = 0.01505 (USD); Mount: Surface Mount; Case/Package: 0805; Case Code (Imperial): 0805; Case Code (Metric): 2012; Weight: 0.000194oz; Contact Plating: Tin; Min Operating Temperature: -55°C; Max Operating Temperature: 155°C; Tolerance: 5%; Packaging: Tape and Reel; Package Quantity: 1; Resistor Type: Thick Film; Termination: SMD/SMT; Number of Terminations: 2; Max Power Dissipation: 500mW; Features: Automotive AEC-Q200; Series: ERJ; Resistance Tolerance: 5%; Construction: Rectangular; Technology: THICK FILM; Length: 2mm; Width: 1.2mm; Height: 0.6mm; Depth: 1.25mm; REACH SVHC: Unknown; Military Standard: Not; Lead Free: Lead Free; RoHS Compliant: Yes; ComponentLink1URL: https://datasheet.ciiva.com/11810/0900766b812cb812-11810156.pdf?src-supplier=RSComponents; ComponentLink1Description: https://datasheet.ciiva.com/11810/0900766b812cb812-11810156.pdf?src-supplier=RSComponents; ComponentLink2URL: https://datasheet.ciiva.com/16788/70068906-16788678.pdf?src-supplier=Allied+Electronics; ComponentLink2Description: https://datasheet.ciiva.com/16788/70068906-16788678.pdf?src-supplier=Allied+Electronics; ComponentLink3URL: https://datasheet.ciiva.com/24163/aoa0000ce4-64075-24163318.pdf?src-supplier=Mouser; ComponentLink3Description: https://datasheet.ciiva.com/24163/aoa0000ce4-64075-24163318.pdf?src-supplier=Mouser; ComponentLink4URL: https://datasheet.ciiva.com/7831/aoa0000ce4-7831000.pdf?src-supplier=Element14; ComponentLink4Description: https://datasheet.ciiva.com/7831/aoa0000ce4-7831000.pdf?src-supplier=Element14; ComponentLink5URL: https://datasheet.ciiva.com/17208/aoa0000ce4-17208010.pdf?src-supplier=Avnet+Europe; ComponentLink5Description: https://datasheet.ciiva.com/17208/aoa0000ce4-17208010.pdf?src-supplier=Avnet+Europe; ComponentLink6URL: https://datasheet.ciiva.com/9186/aoa0000ce4-9186844.pdf?src-supplier=Avnet; ComponentLink6Description: https://datasheet.ciiva.com/9186/aoa0000ce4-9186844.pdf?src-supplier=Avnet; ComponentLink7URL: https://datasheet.ciiva.com/16767/70068906-16767564.pdf?src-supplier=Allied+Electronics; ComponentLink7Description: https://datasheet.ciiva.com/16767/70068906-16767564.pdf?src-supplier=Allied+Electronics; Supplier Part Number 1: P100ADCT-ND
footprint 0805 R
pins: 1, 2

## R_100k ohm
designator R?, comment 100K OHM  Supplier Part Number 1: P16060CT-ND
100 kOhms ±1% 0.5W, 1/2W Chip Resistor 0805 (2012 Metric) Automotive AEC-Q200, Pulse Withstanding Thick Film; Manufacturer: Vishay; Manufacturer Part Number: CRCW08050000Z0EAC; Power Rating: 125mW; Resistance: 20R; Voltage Rating: 150V; Temperature Coefficient: 100ppm/°C; RoHS: Yes; Mount: Surface Mount; Case/Package: Molded; Contact Plating: Tin; Min Operating Temperature: -55°C; Max Operating Temperature: 155°C; Resistor Type: Thick Film; Termination: Wraparound; Length: 2mm; Lead Free: Lead Free; ComponentLink1URL: http://www.vishay.com/docs/28773/crcwce3.pdf?src-supplier=Digi-Key; ComponentLink1Description: http://www.vishay.com/docs/28773/crcwce3.pdf?src-supplier=Digi-Key; Supplier 1: Digi-Key; Stock 1: 56069; Pricing 1: 1 = 0.16000, 10 = 0.13400, 100 = 0.05250, 1000 = 0.02196, 2500 = 0.02013 (USD); Number of Pins: 2; Case Code (Imperial): 0805; Case Code (Metric): 2012; Tolerance: 1%; Packaging: Tape and Reel; Package Quantity: 5000; Voltage Rating (DC): 150V; Width: 1.2mm; Height: 0.6mm; Depth: 1.25mm; Radiation Hardening: No; REACH SVHC: No SVHC; Military Standard: Not; RoHS Compliant: Yes; ComponentLink2URL: https://datasheet.ciiva.com/11811/0900766b812cb812-11811747.pdf?src-supplier=RSComponents; ComponentLink2Description: https://datasheet.ciiva.com/11811/0900766b812cb812-11811747.pdf?src-supplier=RSComponents; ComponentLink3URL: https://datasheet.ciiva.com/17208/aoa0000ce4-17208166.pdf?src-supplier=Avnet+Europe; ComponentLink3Description: https://datasheet.ciiva.com/17208/aoa0000ce4-17208166.pdf?src-supplier=Avnet+Europe; ComponentLink4URL: https://datasheet.ciiva.com/48426/erjp-series-eng-tds-48426780.pdf?src-supplier=Distrelec; ComponentLink4Description: https://datasheet.ciiva.com/48426/erjp-series-eng-tds-48426780.pdf?src-supplier=Distrelec; ComponentLink5URL: https://datasheet.ciiva.com/24028/aoa0000ce4-64075-24028213.pdf?src-supplier=Mouser; ComponentLink5Description: https://datasheet.ciiva.com/24028/aoa0000ce4-64075-24028213.pdf?src-supplier=Mouser; ComponentLink6URL: https://datasheet.ciiva.com/9186/aoa0000ce4-9186934.pdf?src-supplier=Avnet; ComponentLink6Description: https://datasheet.ciiva.com/9186/aoa0000ce4-9186934.pdf?src-supplier=Avnet; ComponentLink7URL: https://datasheet.ciiva.com/30062/aoa0000ce4-30062057.pdf?src-supplier=Onlinecomponents.com; ComponentLink7Description: https://datasheet.ciiva.com/30062/aoa0000ce4-30062057.pdf?src-supplier=Onlinecomponents.com; ComponentLink8URL: https://datasheet.ciiva.com/22758/1801181-22758284.pdf?src-supplier=Farnell; ComponentLink8Description: https://datasheet.ciiva.com/22758/1801181-22758284.pdf?src-supplier=Farnell; ComponentLink9URL: https://datasheet.ciiva.com/22758/1801181-22758285.pdf?src-supplier=Farnell; ComponentLink9Description: https://datasheet.ciiva.com/22758/1801181-22758285.pdf?src-supplier=Farnell
footprint 0805 R
pins: 1, 2

## R_120 ohm
designator R?, comment 120 OHM  Supplier Part Number 1: P120ADCT-ND
120 Ohms ±5% 0.5W, 1/2W Chip Resistor 0805 (2012 Metric) Automotive AEC-Q200, Pulse Withstanding Thick Film; Manufacturer: Panasonic; Manufacturer Part Number: ERJ-P06J121V; Resistance: 120R; Power Rating: 500mW; Voltage Rating: 400V; Temperature Coefficient: 200ppm/°C; Voltage Rating (DC): 150V; ComponentLink1URL: https://datasheet.ciiva.com/11810/0900766b812cb812-11810156.pdf?src-supplier=RSComponents; ComponentLink1Description: https://datasheet.ciiva.com/11810/0900766b812cb812-11810156.pdf?src-supplier=RSComponents; ComponentLink2URL: https://datasheet.ciiva.com/16788/70068906-16788678.pdf?src-supplier=Allied+Electronics; ComponentLink2Description: https://datasheet.ciiva.com/16788/70068906-16788678.pdf?src-supplier=Allied+Electronics; ComponentLink3URL: https://datasheet.ciiva.com/24163/aoa0000ce4-64075-24163318.pdf?src-supplier=Mouser; ComponentLink3Description: https://datasheet.ciiva.com/24163/aoa0000ce4-64075-24163318.pdf?src-supplier=Mouser; ComponentLink4URL: https://datasheet.ciiva.com/7831/aoa0000ce4-7831000.pdf?src-supplier=Element14; ComponentLink4Description: https://datasheet.ciiva.com/7831/aoa0000ce4-7831000.pdf?src-supplier=Element14; ComponentLink5URL: https://datasheet.ciiva.com/17208/aoa0000ce4-17208010.pdf?src-supplier=Avnet+Europe; ComponentLink5Description: https://datasheet.ciiva.com/17208/aoa0000ce4-17208010.pdf?src-supplier=Avnet+Europe; ComponentLink6URL: https://datasheet.ciiva.com/9186/aoa0000ce4-9186844.pdf?src-supplier=Avnet; ComponentLink6Description: https://datasheet.ciiva.com/9186/aoa0000ce4-9186844.pdf?src-supplier=Avnet; ComponentLink7URL: https://datasheet.ciiva.com/16767/70068906-16767564.pdf?src-supplier=Allied+Electronics; ComponentLink7Description: https://datasheet.ciiva.com/16767/70068906-16767564.pdf?src-supplier=Allied+Electronics; Supplier 1: Digi-Key; RoHS: Yes; Stock 1: 16701; Pricing 1: 1 = 0.10000, 10 = 0.09400, 100 = 0.03600, 1000 = 0.01584, 2500 = 0.01368 (USD); Mount: Surface Mount; Case/Package: 0805; Case Code (Metric): 2012; Case Code (Imperial): 0805; Weight: 0.000194oz; Contact Plating: Tin; Min Operating Temperature: -55°C; Max Operating Temperature: 155°C; Tolerance: 5%; Packaging: Tape and Reel; Package Quantity: 1; Resistor Type: Thick Film; Number of Terminations: 2; Termination: SMD/SMT; Max Power Dissipation: 500mW; Features: Automotive AEC-Q200; Series: ERJ; Construction: Rectangular; Resistance Tolerance: 5%; Technology: THICK FILM; Length: 2mm; Width: 0.049inch; Height: 0.6mm; Depth: 1.25mm; Radiation Hardening: No; REACH SVHC: No SVHC; Military Standard: Not; Lead Free: Lead Free; RoHS Compliant: Yes; ComponentLink8URL: https://datasheet.ciiva.com/11811/0900766b812cb812-11811151.pdf?src-supplier=RSComponents; ComponentLink8Description: https://datasheet.ciiva.com/11811/0900766b812cb812-11811151.pdf?src-supplier=RSComponents; ComponentLink9URL: https://datasheet.ciiva.com/9186/aoa0000ce4-9186293.pdf?src-supplier=Avnet; ComponentLink9Description: https://datasheet.ciiva.com/9186/aoa0000ce4-9186293.pdf?src-supplier=Avnet; ComponentLink10URL: https://datasheet.ciiva.com/16769/70068906-16769159.pdf?src-supplier=Allied+Electronics; ComponentLink10Description: https://datasheet.ciiva.com/16769/70068906-16769159.pdf?src-supplier=Allied+Electronics; ComponentLink11URL: https://datasheet.ciiva.com/24159/aoa0000ce4-64075-24159096.pdf?src-supplier=Mouser; ComponentLink11Description: https://datasheet.ciiva.com/24159/aoa0000ce4-64075-24159096.pdf?src-supplier=Mouser; ComponentLink12URL: https://datasheet.ciiva.com/30235/aoa0000ce4-30235964.pdf?src-supplier=Onlinecomponents.com; ComponentLink12Description: https://datasheet.ciiva.com/30235/aoa0000ce4-30235964.pdf?src-supplier=Onlinecomponents.com; ComponentLink13URL: https://datasheet.ciiva.com/17207/aoa0000ce4-17207741.pdf?src-supplier=Avnet+Europe; ComponentLink13Description: https://datasheet.ciiva.com/17207/aoa0000ce4-17207741.pdf?src-supplier=Avnet+Europe; ComponentLink14URL: https://datasheet.ciiva.com/6082/aoa0000ce4-6082638.pdf?src-supplier=Farnell; ComponentLink14Description: https://datasheet.ciiva.com/6082/aoa0000ce4-6082638.pdf?src-supplier=Farnell
footprint 0805 R
pins: 1, 2

## R_200 ohm
designator R?, comment 200 OHM  Supplier Part Number 1: P200DACT-ND
200 Ohms ±0.1% 0.125W, 1/8W Chip Resistor 0805 (2012 Metric) Automotive AEC-Q200 Thin Film; Manufacturer: Panasonic; Manufacturer Part Number: ERJ-P06F2000V; Temperature Coefficient: 100ppm/°C; Voltage Rating (DC): 150V; Resistance: 200R; Power Rating: 500mW; Tolerance: 1%; RoHS: Yes; Mount: Surface Mount; Case/Package: 0805; Number of Pins: 2; Case Code (Imperial): 0805; Case Code (Metric): 2012; Contact Plating: Tin; Min Operating Temperature: -55°C; Max Operating Temperature: 155°C; Resistor Type: Thick Film; Voltage Rating: 150V; Packaging: Tape and Reel; Package Quantity: 5000; Termination: Wraparound; Length: 2mm; Width: 1.2mm; Height: 0.6mm; Depth: 1.25mm; Lead Free: Lead Free; Military Standard: Not; REACH SVHC: No SVHC; Number of Terminations: 2; Max Power Dissipation: 500mW; Features: Automotive AEC-Q200; Series: ERJ; Construction: Rectangular; Technology: THICK FILM; Radiation Hardening: No; RoHS Compliant: Yes; ComponentLink1URL: https://datasheet.ciiva.com/11811/0900766b812cb812-11811594.pdf?src-supplier=RSComponents; ComponentLink1Description: https://datasheet.ciiva.com/11811/0900766b812cb812-11811594.pdf?src-supplier=RSComponents; ComponentLink2URL: https://datasheet.ciiva.com/24026/aoa0000ce4-64075-24026537.pdf?src-supplier=Mouser; ComponentLink2Description: https://datasheet.ciiva.com/24026/aoa0000ce4-64075-24026537.pdf?src-supplier=Mouser; ComponentLink3URL: https://datasheet.ciiva.com/9184/aoa0000ce4-9184694.pdf?src-supplier=Avnet; ComponentLink3Description: https://datasheet.ciiva.com/9184/aoa0000ce4-9184694.pdf?src-supplier=Avnet; ComponentLink4URL: https://datasheet.ciiva.com/30051/aoa0000ce4-30051223.pdf?src-supplier=Onlinecomponents.com; ComponentLink4Description: https://datasheet.ciiva.com/30051/aoa0000ce4-30051223.pdf?src-supplier=Onlinecomponents.com; Supplier 1: Digi-Key; Stock 1: 15886; Pricing 1: 1 = 0.31000, 10 = 0.26200, 100 = 0.10230, 1000 = 0.04284, 2500 = 0.03927 (USD); Size Code: 0805; Resistance Tolerance: 0.1%; ComponentLink5URL: https://datasheet.ciiva.com/29184/452790-da-01-en-widerstand-0805-era-29184068.pdf?src-supplier=Conrad; ComponentLink5Description: https://datasheet.ciiva.com/29184/452790-da-01-en-widerstand-0805-era-29184068.pdf?src-supplier=Conrad; ComponentLink6URL: https://datasheet.ciiva.com/16769/70068849-16769175.pdf?src-supplier=Allied+Electronics; ComponentLink6Description: https://datasheet.ciiva.com/16769/70068849-16769175.pdf?src-supplier=Allied+Electronics; ComponentLink7URL: https://datasheet.ciiva.com/43457/485442-43457863.pdf?src-supplier=Farnell; ComponentLink7Description: https://datasheet.ciiva.com/43457/485442-43457863.pdf?src-supplier=Farnell; ComponentLink8URL: https://datasheet.ciiva.com/9184/aoa0000ce26-9184632.pdf?src-supplier=Avnet; ComponentLink8Description: https://datasheet.ciiva.com/9184/aoa0000ce26-9184632.pdf?src-supplier=Avnet; ComponentLink9URL: https://datasheet.ciiva.com/30158/54aoa0000ce26-30158504.pdf?src-supplier=Onlinecomponents.com; ComponentLink9Description: https://datasheet.ciiva.com/30158/54aoa0000ce26-30158504.pdf?src-supplier=Onlinecomponents.com; ComponentLink10URL: https://datasheet.ciiva.com/48425/era-eng-tds-48425774.pdf?src-supplier=Distrelec; ComponentLink10Description: https://datasheet.ciiva.com/48425/era-eng-tds-48425774.pdf?src-supplier=Distrelec; ComponentLink11URL: https://datasheet.ciiva.com/16781/70068849-16781071.pdf?src-supplier=Allied+Electronics; ComponentLink11Description: https://datasheet.ciiva.com/16781/70068849-16781071.pdf?src-supplier=Allied+Electronics; ComponentLink12URL: https://datasheet.ciiva.com/17207/aoa0000ce26-17207007.pdf?src-supplier=Avnet+Europe; ComponentLink12Description: https://datasheet.ciiva.com/17207/aoa0000ce26-17207007.pdf?src-supplier=Avnet+Europe
footprint 0805 R
pins: 1, 2

## R_220 k
designator R?, comment 220K OHM  Supplier Part Number 1: 541-220KTACT-ND
220 kOhms ±5% 0.5W, 1/2W Chip Resistor 0805 (2012 Metric) Automotive AEC-Q200, Pulse Withstanding Thick Film; Manufacturer: Vishay; Manufacturer Part Number: CRCW0805220KFKEAC; Resistance: 220kR; Power Rating: 330mW; Voltage Rating: 150V; Temperature Coefficient: 200ppm/°C; Max Power Dissipation: 333mW; RoHS: No; Case/Package: 0805; Weight: 0.000194oz; Case Code (Imperial): 0805; Case Code (Metric): 2012; Contact Plating: Tin; Min Operating Temperature: -55°C; Max Operating Temperature: 155°C; Packaging: Tape and Reel; Tolerance: 5%; Package Quantity: 1; Termination: SMD/SMT; Resistor Type: Thick Film; Number of Terminations: 2; Features: Automotive AEC-Q200; Series: CRCW-HP; Length: 0.079inch; Width: 1.2mm; Height: 0.024inch; Radiation Hardening: No; Lead Free: Lead Free; RoHS Compliant: Yes; ComponentLink1URL: https://datasheet.ciiva.com/5542/crcwhpe3-46056-5542231.pdf?src-supplier=Mouser; ComponentLink1Description: https://datasheet.ciiva.com/5542/crcwhpe3-46056-5542231.pdf?src-supplier=Mouser; ComponentLink2URL: https://datasheet.ciiva.com/2474/crcwhpe3-2474653.pdf?src-supplier=Digi-Key; ComponentLink2Description: https://datasheet.ciiva.com/2474/crcwhpe3-2474653.pdf?src-supplier=Digi-Key; ComponentLink3URL: https://datasheet.ciiva.com/2474/crcwhpe3-2474654.pdf?src-supplier=Digi-Key; ComponentLink3Description: https://datasheet.ciiva.com/2474/crcwhpe3-2474654.pdf?src-supplier=Digi-Key; ComponentLink4URL: https://datasheet.ciiva.com/2474/crcwhpe3-2474655.pdf?src-supplier=Digi-Key; ComponentLink4Description: https://datasheet.ciiva.com/2474/crcwhpe3-2474655.pdf?src-supplier=Digi-Key; Supplier 1: Digi-Key; Stock 1: 11065; Pricing 1: 1 = 0.21000, 10 = 0.17600, 100 = 0.06880, 1000 = 0.02880, 2500 = 0.02640 (USD)
footprint 0805 R
pins: 1, 2